# EAGLE library part ATTINY13 (library processors)
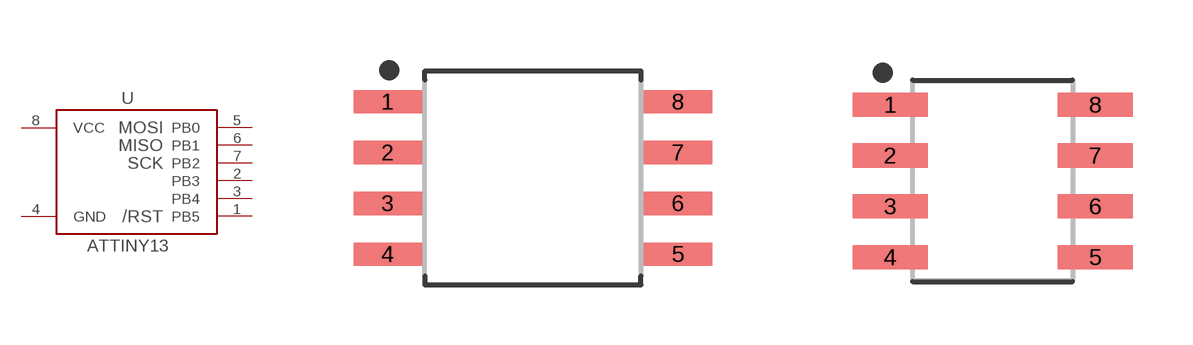
[diagram p2: symbol with the pads of EIAJ_SOIC8; footprints EIAJ_SOIC8, JEDEC_SOIC8]

Designator prefix -

## ATTINY13-SU  [EIAJ_SOIC8]
1  PB5
2  PB3
3  PB4
4  GND
5  PB0
6  PB1
7  PB2
8  VCC

## ATTINY13-SSU  [JEDEC_SOIC8]
Pads as for EIAJ_SOIC8

## ATTINY13-PU  [PDIP8]
Pads as for EIAJ_SOIC8

## Footprint EIAJ_SOIC8 (pad centres in mm)
8-SOIC, 1.27 mm pitch, 7.98 mm span, 5.24 X 5.29 X 2.16 mm body 8-pin SOIC package with 1.27 mm pitch, 7.98 mm span with body size 5.24 X 5.29 X 2.16 mm
smd 1.714 x 0.582: 1 -3.628,1.905; 2 -3.628,0.635; 3 -3.628,-0.635; 4 -3.628,-1.905; 5 3.628,-1.905; 6 3.628,-0.635; 7 3.628,0.635; 8 3.628,1.905

## Footprint JEDEC_SOIC8 (pad centres in mm)
8-SOIC, 1.27 mm pitch, 6.20 mm span, 5.00 X 4.00 X 1.75 mm body 8-pin SOIC package with 1.27 mm pitch, 6.20 mm span with body size 5.00 X 4.00 X 1.75 mm
smd 1.882 x 0.602: 1 -2.565,1.905; 2 -2.565,0.635; 3 -2.565,-0.635; 4 -2.565,-1.905; 5 2.565,-1.905; 6 2.565,-0.635; 7 2.565,0.635; 8 2.565,1.905

## Footprint PDIP8 (pad centres in mm)
8-DIP, 2.54 mm (0.10 in) pitch, 7.62 mm (0.30 in) span, 9.59 X 6.60 X 4.95 mm body 8-pin DIP package with 2.54 mm (0.10 in) pitch, 7.62 mm (0.30 in) span with body size 9.59 X 6.60 X 4.95 mm
drill 0.743 pad 1.343: 1 -3.81,3.81; 2 -3.81,1.27; 3 -3.81,-1.27; 4 -3.81,-3.81; 5 3.81,-3.81; 6 3.81,-1.27; 7 3.81,1.27; 8 3.81,3.81